# EAGLE library part DDC114TU (library transistor)
TRANS 2NPN PREBIAS 0.2W SOT363
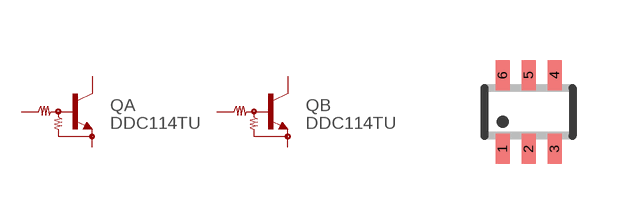
[diagram p6: symbol with the pads of SC70-6; footprint SC70-6]

Designator prefix Q; gates A=NPN-DRIVER B=NPN-DRIVER

## DDC114TU  [SC70-6]
1  B:E  pas
2  B:B  pas
3  A:C  pas
4  A:E  pas
5  A:B  pas
6  B:C  pas

## Footprint SC70-6 (pad centres in mm)
SC70−6 0.65 mm pitch
smd 0.35 x 0.75: 1 -0.65,-0.92; 2 0,-0.92; 3 0.65,-0.92; 4 0.65,0.92; 5 0,0.92; 6 -0.65,0.92